# Altium footprint library BOTTOM_BOARD.PcbLib: 1 footprints
Each footprint in its own frame and in the unit in brackets; x right, y up, seen from the top. Pads: shape width x height; smd on the part's side, far side on the other; paste and mask are expansions set on the pad; w line width, h text height; cw(c..) or ccw(c..) is an arc to the next point about the centre after c.

## BOTTOM_BOARD [mm]
height 1.1
Top Assembly:
  text "'.Designator'" at 0,0 h0.7
3D body "BOTTOM_BOARD.step": height 30.75, standoff -4.7, extent -51,-45.798 51,45.798